# EAGLE library part TI_ULN2003A (library travis)
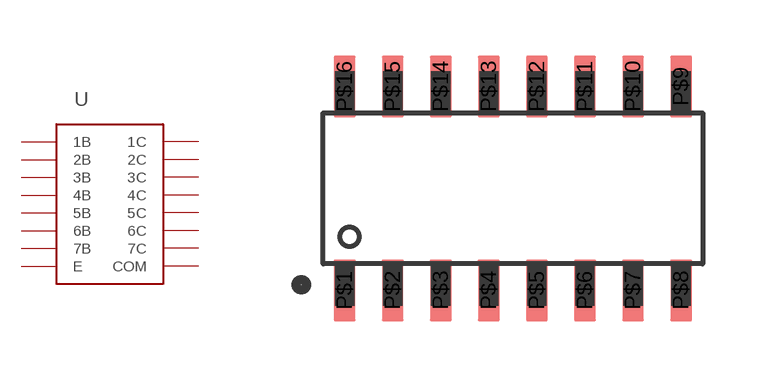
[diagram p1: symbol with the pads of SOIC16_TI; footprint SOIC16_TI]

Designator prefix U

## TI_ULN2003A  [SOIC16_TI]
P$1  1B
P$2  2B
P$3  3B
P$4  4B
P$5  5B
P$6  6B
P$7  7B
P$8  E
P$9  COM
P$10  7C
P$11  6C
P$12  5C
P$13  4C
P$14  3C
P$15  2C
P$16  1C

## Footprint SOIC16_TI (pad centres in mm)
smd 0.584 x 1.626: P$1 -4.445,-2.692; P$2 -3.175,-2.692; P$3 -1.905,-2.692; P$4 -0.635,-2.692; P$5 0.635,-2.692; P$6 1.905,-2.692; P$7 3.175,-2.692; P$8 4.445,-2.692; P$9 4.445,2.692; P$10 3.175,2.692; P$11 1.905,2.692; P$12 0.635,2.692; P$13 -0.635,2.692; P$14 -1.905,2.692; P$15 -3.175,2.692; P$16 -4.445,2.692